# EAGLE library part BLK-MD-SPK-B (library BLK-MD-SPK-B)
EAGLE Library for BLK-MD-SPK-B by Bolutek http://www.bolutek.cn/Products_info.asp?TypeID=104&SubTypeID=104001&id=292 Made by Siew Wai Hung http://waihung.net 21 Dec 2013
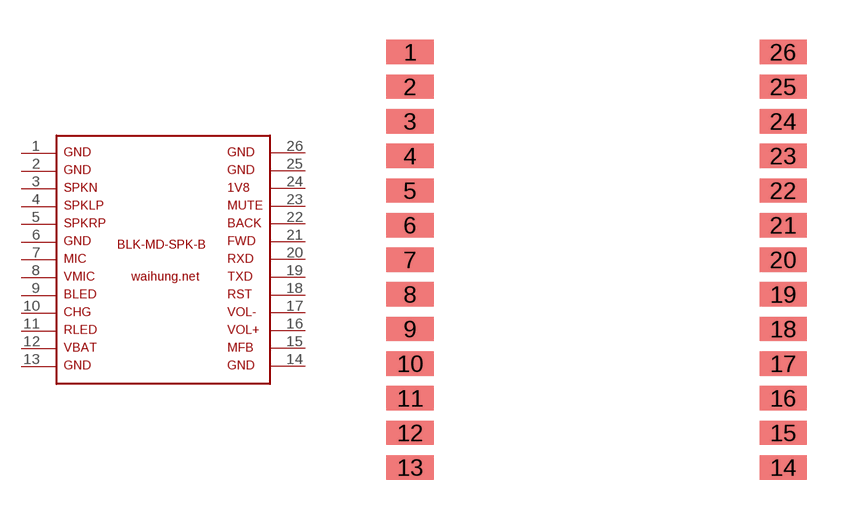
[diagram p0: symbol with the pads of BLK-MD-SPK-B; footprint BLK-MD-SPK-B]

Designator prefix -

## BLK-MD-SPK-B  [BLK-MD-SPK-B]
1  P$1
2  P$2
3  P$3
4  P$4
5  P$5
6  P$6
7  P$7
8  P$8
9  P$9
10  P$10
11  P$11
12  P$12
13  P$13
14  P$14
15  P$15
16  P$16
17  P$17
18  P$18
19  P$19
20  P$20
21  P$21
22  P$22
23  P$23
24  P$24
25  P$25
26  P$26

## Footprint BLK-MD-SPK-B (pad centres in mm)
smd 1.778 x 0.914: 1 -7,7.8; 2 -7,6.5; 3 -7,5.2; 4 -7,3.9; 5 -7,2.6; 6 -7,1.3; 7 -7,0; 8 -7,-1.3; 9 -7,-2.6; 10 -7,-3.9; 11 -7,-5.2; 12 -7,-6.5; 13 -7,-7.8; 14 7,-7.8; 15 7,-6.5; 16 7,-5.2; 17 7,-3.9; 18 7,-2.6; 19 7,-1.3; 20 7,0; 21 7,1.3; 22 7,2.6; 23 7,3.9; 24 7,5.2; 25 7,6.5; 26 7,7.8